# Altium footprint library PcbLib_ZG.PcbLib: 87 footprints (part 4 of 6)
Each footprint in its own frame and in the unit in brackets; x right, y up, seen from the top. Pads: shape width x height; smd on the part's side, far side on the other; paste and mask are expansions set on the pad; w line width, h text height; cw(c..) or ccw(c..) is an arc to the next point about the centre after c.
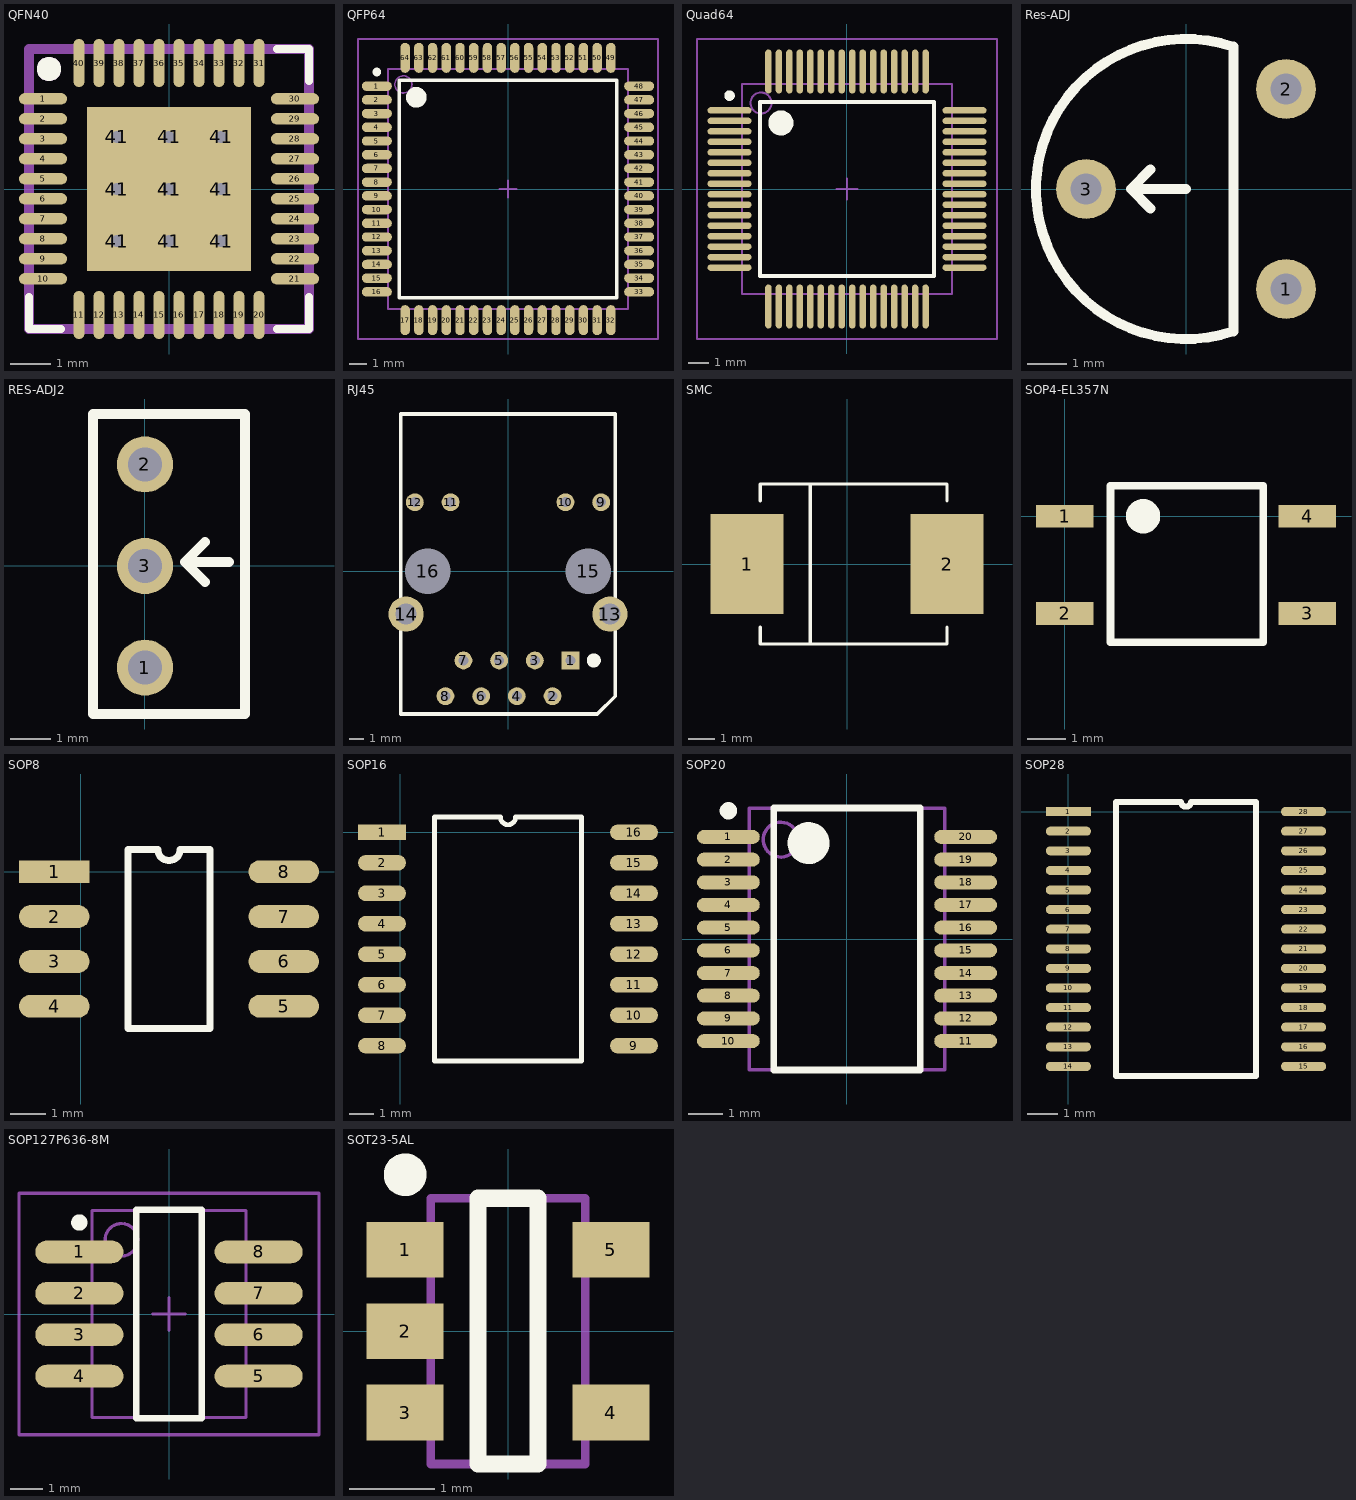
[diagram p3: the footprints below, top view; thin cyan lines are the x and y axes]

## QFN40 [mm]
pads (50):
  oval 1.2x0.28 smd paste+0 mask+0.07: 1(-3.15,2.255) 2(-3.15,1.755) 3(-3.15,1.255) 4(-3.15,0.755) 5(-3.15,0.255) 6(-3.15,-0.245) 7(-3.15,-0.745) 8(-3.15,-1.245) 9(-3.15,-1.745) 10(-3.15,-2.245) 21(3.15,-2.245) 22(3.15,-1.745) 23(3.15,-1.245) 24(3.15,-0.745) 25(3.15,-0.245) 26(3.15,0.255) 27(3.15,0.755) 28(3.15,1.255) 29(3.15,1.755) 30(3.15,2.255)
  oval 0.28x1.2 smd paste+0 mask+0.07: 11(-2.25,-3.15) 12(-1.75,-3.15) 13(-1.25,-3.15) 14(-0.75,-3.15) 15(-0.25,-3.15) 16(0.25,-3.15) 17(0.75,-3.15) 18(1.25,-3.15) 19(1.75,-3.15) 20(2.25,-3.15) 31(2.25,3.15) 32(1.75,3.15) 33(1.25,3.15) 34(0.75,3.15) 35(0.25,3.15) 36(-0.25,3.15) 37(-0.75,3.15) 38(-1.25,3.15) 39(-1.75,3.15) 40(-2.25,3.15)
  rect 1x1 smd paste+0 mask-1.1: 41(-1.3,-1.3) 41(-1.3,0) 41(-1.3,1.3) 41(0,-1.3) 41(0,0) 41(0,1.3) 41(1.3,-1.3) 41(1.3,0) 41(1.3,1.3)
  rect 4.1x4.1 smd paste-4.6 mask+0: 41(0,0)
via -1.3,1.3 diameter 0.55 hole 0.3
via 0,1.3 diameter 0.55 hole 0.3
via 1.3,1.3 diameter 0.55 hole 0.3
via -1.3,0 diameter 0.55 hole 0.3
via 0,0 diameter 0.55 hole 0.3
via 1.3,0 diameter 0.55 hole 0.3
via 1.3,-1.3 diameter 0.55 hole 0.3
via 0,-1.3 diameter 0.55 hole 0.3
via -1.3,-1.3 diameter 0.55 hole 0.3
Top Overlay:
  region: -3,2.7 -3.06,2.7 -3.17,2.746 -3.254,2.83 -3.3,2.94 -3.3,3.06 -3.254,3.17 -3.17,3.254 -3.06,3.3 -3,3.3 -2.94,3.3 -2.83,3.254 -2.746,3.17 -2.7,3.06 -2.7,2.94 -2.746,2.83 -2.83,2.746 -2.94,2.7
  lines w0.2: -3.5,-2.7 -3.5,-3.5 -2.7,-3.5 ; 2.7,-3.5 3.5,-3.5 3.5,-2.7 ; 2.7,3.5 3.5,3.5 3.5,2.7
Mechanical 1:
  region: -3,2.7 -3.06,2.7 -3.17,2.746 -3.254,2.83 -3.3,2.94 -3.3,3.06 -3.254,3.17 -3.17,3.254 -3.06,3.3 -3,3.3 -2.94,3.3 -2.83,3.254 -2.746,3.17 -2.7,3.06 -2.7,2.94 -2.746,2.83 -2.83,2.746 -2.94,2.7
  lines w0.254: -3.5,-3.5 3.5,-3.5 3.5,3.5 -3.5,3.5 -3.5,-3.5
3D body: height 1, standoff 0, extent -3.5,-3.5 3.5,3.5

## QFP64 [mm] "Thin QFP, 64-Leads, Body 14x14mm, Pitch 0.8mm, IPC Medium Density"
height 1.2
pads (64):
  oval 1.75x0.55 smd: 1(-7.65,6) 2(-7.65,5.2) 3(-7.65,4.4) 4(-7.65,3.6) 5(-7.65,2.8) 6(-7.65,2) 7(-7.65,1.2) 8(-7.65,0.4) 9(-7.65,-0.4) 10(-7.65,-1.2) 11(-7.65,-2) 12(-7.65,-2.8) 13(-7.65,-3.6) 14(-7.65,-4.4) 15(-7.65,-5.2) 16(-7.65,-6) 33(7.65,-6) 34(7.65,-5.2) 35(7.65,-4.4) 36(7.65,-3.6) 37(7.65,-2.8) 38(7.65,-2) 39(7.65,-1.2) 40(7.65,-0.4) 41(7.65,0.4) 42(7.65,1.2) 43(7.65,2) 44(7.65,2.8) 45(7.65,3.6) 46(7.65,4.4) 47(7.65,5.2) 48(7.65,6)
  oval 0.55x1.75 smd: 17(-6,-7.65) 18(-5.2,-7.65) 19(-4.4,-7.65) 20(-3.6,-7.65) 21(-2.8,-7.65) 22(-2,-7.65) 23(-1.2,-7.65) 24(-0.4,-7.65) 25(0.4,-7.65) 26(1.2,-7.65) 27(2,-7.65) 28(2.8,-7.65) 29(3.6,-7.65) 30(4.4,-7.65) 31(5.2,-7.65) 32(6,-7.65) 49(6,7.65) 50(5.2,7.65) 51(4.4,7.65) 52(3.6,7.65) 53(2.8,7.65) 54(2,7.65) 55(1.2,7.65) 56(0.4,7.65) 57(-0.4,7.65) 58(-1.2,7.65) 59(-2,7.65) 60(-2.8,7.65) 61(-3.6,7.65) 62(-4.4,7.65) 63(-5.2,7.65) 64(-6,7.65)
Top Overlay:
  circle w0.6: c-5.35,5.35 r0.3
  circle w0.25: c-7.65,6.825 r0.125
  lines w0.2: -6.35,-6.35 6.35,-6.35 6.35,6.35 -6.35,6.35 -6.35,-6.35
Mechanical 13:
  circle w0.1: c-6.1,6.1 r0.5
  lines w0.1: -7,-7 7,-7 7,7 -7,7 -7,-7
Mechanical 15:
  lines w0.1: -0.5,0 0.5,0 ; 0,-0.5 0,0.5 ; -8.75,-8.75 8.75,-8.75 8.75,8.75 -8.75,8.75 -8.75,-8.75
3D body: height 1.2, standoff 0, extent -7,-7 7,7

## Quad40 [mm]

## Quad64 [mm] "stm32f103rb"
pads (64):
  oval 2.1x0.3 smd: 1(-5.6,3.75) 2(-5.6,3.25) 3(-5.6,2.75) 4(-5.6,2.25) 5(-5.6,1.75) 6(-5.6,1.25) 7(-5.6,0.75) 8(-5.6,0.25) 9(-5.6,-0.25) 10(-5.6,-0.75) 11(-5.6,-1.25) 12(-5.6,-1.75) 13(-5.6,-2.25) 14(-5.6,-2.75) 15(-5.6,-3.25) 16(-5.6,-3.75) 33(5.6,-3.75) 34(5.6,-3.25) 35(5.6,-2.75) 36(5.6,-2.25) 37(5.6,-1.75) 38(5.6,-1.25) 39(5.6,-0.75) 40(5.6,-0.25) 41(5.6,0.25) 42(5.6,0.75) 43(5.6,1.25) 44(5.6,1.75) 45(5.6,2.25) 46(5.6,2.75) 47(5.6,3.25) 48(5.6,3.75)
  oval 0.3x2.1 smd: 17(-3.75,-5.6) 18(-3.25,-5.6) 19(-2.75,-5.6) 20(-2.25,-5.6) 21(-1.75,-5.6) 22(-1.25,-5.6) 23(-0.75,-5.6) 24(-0.25,-5.6) 25(0.25,-5.6) 26(0.75,-5.6) 27(1.25,-5.6) 28(1.75,-5.6) 29(2.25,-5.6) 30(2.75,-5.6) 31(3.25,-5.6) 32(3.75,-5.6) 49(3.75,5.6) 50(3.25,5.6) 51(2.75,5.6) 52(2.25,5.6) 53(1.75,5.6) 54(1.25,5.6) 55(0.75,5.6) 56(0.25,5.6) 57(-0.25,5.6) 58(-0.75,5.6) 59(-1.25,5.6) 60(-1.75,5.6) 61(-2.25,5.6) 62(-2.75,5.6) 63(-3.25,5.6) 64(-3.75,5.6)
Top Overlay:
  circle w0.25: c-5.6,4.45 r0.125
  circle w0.6: c-3.15,3.15 r0.3
  lines w0.2: -4.15,-4.15 -4.15,4.15 4.15,4.15 4.15,-4.15 -4.15,-4.15
Mechanical 13:
  circle w0.1: c-4.1,4.1 r0.5
  lines w0.1: -5,-5 -5,5 5,5 5,-5 -5,-5
Mechanical 15:
  lines w0.1: -0.5,0 0.5,0 ; 0,-0.5 0,0.5 ; -7.15,-7.15 -7.15,7.15 7.15,7.15 7.15,-7.15 -7.15,-7.15
3D body: height 0.25, standoff 0, extent 5.436,-0.66 5.436,-0.66

## Res-ADJ [mil] "Blue-White adjustable resister"
height 196.85
pads (3):
  round 60 hole 31.5: 1(100,-100) 2(100,100) 3(-100,0)
Top Overlay:
  lines w10: -35.43,-19.68 -55.12,0 ; -35.43,19.68 -55.12,0 ; 0,0 -55.12,0 ; 47.43,-142.3 cw(c0,0) 47.43,142.3 47.43,-142.3
3D body: height 10, standoff 0, extent -150,-150 150,150

## RES-ADJ2 [mm]
height 10
pads (3):
  round 1.4 hole 0.85: 1(0,-2.54) 2(0,2.54) 3(0,0)
Top Overlay:
  lines w0.254: 1.5,-0.4 1,0.1 ; 1.5,0.6 1,0.1 ; 2.1,0.1 1,0.1 ; -1.3,-3.7 2.5,-3.7 2.5,3.8 -1.3,3.8 -1.3,-3.7
3D body: height 10, standoff 0, extent -1.277,-3.81 2.537,3.81

## RJ45 [mm]
height 20
pads (16):
  rect 1.27x1.27 hole 0.711: 1(4.45,-6.35)
  round 1.27 hole 0.711: 2(3.17,-8.89) 3(1.91,-6.35) 4(0.63,-8.89) 5(-0.63,-6.35) 6(-1.91,-8.89) 7(-3.17,-6.35) 8(-4.45,-8.89) 9(6.625,4.9) 10(4.085,4.9) 11(-4.085,4.9) 12(-6.625,4.9)
  round 2.5 hole 1.5: 13(7.245,-3.05) 14(-7.245,-3.05)
  round 3.05 hole 3.25: 15(5.715,0) 16(-5.715,0)
Top Overlay:
  circle w0.5: c6.1,-6.35 r0.25
  lines w0.254: -7.62,-10.16 -7.62,11.176 7.62,11.176 7.62,-8.89 6.35,-10.16 -7.62,-10.16
3D body: height 14, standoff 0, extent -7.62,-10.16 7.62,11.176

## SMC [mil] "Diode; 2 Leads"
pads (2):
  rect 110x150 smd: 1(-150,0) 2(150,0)
Top Overlay:
  lines w5: -130,-95 -130,-120 150,-120 150,-95 ; -130,95 -130,120 150,120 150,95 ; -55,-120 -55,120
Mechanical 1:
  lines w1: -130,-120 150,-120 ; -130,120 150,120

## SOP4-EL357N [mm]
pads (4):
  rect 1.5x0.6 smd: 1(0,0) 2(0,-2.54) 3(6.35,-2.54) 4(6.35,0)
Top Overlay:
  circle w0.5: c2.05,0 r0.2
  lines w0.2: 1.2,-3.3 1.2,0.8 5.2,0.8 5.2,-3.3 1.2,-3.3

## SOP8 [mm] "8 pin sop"
height 1.2
pads (8):
  rect 2x0.65 smd: 1(-0.75,0)
  oval 2x0.65 smd: 2(-0.75,-1.27) 3(-0.75,-2.54) 4(-0.75,-3.81) 5(5.75,-3.81) 6(5.75,-2.54) 7(5.75,-1.27) 8(5.75,0)
Top Overlay:
  lines w0.2: 1.335,-4.445 3.665,-4.445 3.665,0.635 2.818,0.635 cw(c2.5,0.635) 2.183,0.635 1.335,0.635 1.335,-4.445
3D body: height 1.2, standoff 0, extent 0.7,-4.5 4.2,0.7

## SOP16 [mm]
pads (16):
  rect 2x0.65 smd: 1(-0.75,0)
  oval 2x0.65 smd: 2(-0.75,-1.27) 3(-0.75,-2.54) 4(-0.75,-3.81) 5(-0.75,-5.08) 6(-0.75,-6.35) 7(-0.75,-7.62) 8(-0.75,-8.89) 9(9.75,-8.89) 10(9.75,-7.62) 11(9.75,-6.35) 12(9.75,-5.08) 13(9.75,-3.81) 14(9.75,-2.54) 15(9.75,-1.27) 16(9.75,0)
Top Overlay:
  lines w0.2: 1.435,-9.525 1.435,0.635 4.182,0.635 ccw(c4.5,0.635) 4.817,0.635 7.565,0.635 7.565,-9.525 1.435,-9.525
3D body: height 1.2, standoff 0, extent 1,-9.5 8,0.6

## SOP20 [mm] "SOP, 20-Leads, Body 7.2x5.3mm, Pitch 0.65mm, IPC High Density"
height 2
pads (20):
  oval 1.8x0.4 smd: 1(-3.4,2.925) 2(-3.4,2.275) 3(-3.4,1.625) 4(-3.4,0.975) 5(-3.4,0.325) 6(-3.4,-0.325) 7(-3.4,-0.975) 8(-3.4,-1.625) 9(-3.4,-2.275) 10(-3.4,-2.925) 11(3.4,-2.925) 12(3.4,-2.275) 13(3.4,-1.625) 14(3.4,-0.975) 15(3.4,-0.325) 16(3.4,0.325) 17(3.4,0.975) 18(3.4,1.625) 19(3.4,2.275) 20(3.4,2.925)
Top Overlay:
  circle w0.25: c-3.4,3.675 r0.125
  circle w0.6: c-1.1,2.75 r0.3
  lines w0.2: -2.1,-3.75 -2.1,3.75 2.1,3.75 2.1,-3.75 -2.1,-3.75
Mechanical 13:
  circle w0.1: c-1.9,2.85 r0.5
  lines w0.1: -2.8,-3.75 -2.8,3.75 2.8,3.75 2.8,-3.75 -2.8,-3.75
3D body: height 1.2, standoff 0, extent -2.8,-3.75 2.8,3.75

## SOP28 [mm]
pads (28):
  rect 1.5x0.3 smd: 1(0,0)
  oval 1.5x0.3 smd: 2(0,-0.65) 3(0,-1.3) 4(0,-1.95) 5(0,-2.6) 6(0,-3.25) 7(0,-3.9) 8(0,-4.55) 9(0,-5.2) 10(0,-5.85) 11(0,-6.5) 12(0,-7.15) 13(0,-7.8) 14(0,-8.45) 15(7.8,-8.45) 16(7.8,-7.8) 17(7.8,-7.15) 18(7.8,-6.5) 19(7.8,-5.85) 20(7.8,-5.2) 21(7.8,-4.55) 22(7.8,-3.9) 23(7.8,-3.25) 24(7.8,-2.6) 25(7.8,-1.95) 26(7.8,-1.3) 27(7.8,-0.65) 28(7.8,0)
Top Overlay:
  lines w0.2: 1.585,-8.775 6.215,-8.775 6.215,0.325 4.062,0.325 cw(c3.9,0.325) 3.738,0.325 1.585,0.325 1.585,-8.775
3D body: height 1.2, standoff 0, extent 0.5,-8.9 7.3,0.45

## SOP64 [mm]

## SOP127P636-8M [mm] "SOP, 8-Leads, Body 6x4.7mm, Pitch 1.27mm, IPC Low Density"
height 1.5
pads (8):
  oval 2.7x0.7 smd: 1(-2.75,1.905) 2(-2.75,0.635) 3(-2.75,-0.635) 4(-2.75,-1.905) 5(2.75,-1.905) 6(2.75,-0.635) 7(2.75,0.635) 8(2.75,1.905)
Top Overlay:
  circle w0.25: c-2.75,2.805 r0.125
  lines w0.2: -1,-3.2 -1,3.2 1,3.2 1,-3.2 -1,-3.2
Mechanical 13:
  circle w0.1: c-1.46,2.275 r0.5
  lines w0.1: -2.36,-3.175 -2.36,3.175 2.36,3.175 2.36,-3.175 -2.36,-3.175
Mechanical 15:
  lines w0.1: -0.5,0 0.5,0 ; 0,-0.5 0,0.5 ; -4.6,-3.7 -4.6,3.7 4.6,3.7 4.6,-3.7 -4.6,-3.7
3D body: height 1.5, standoff 0, extent -2.36,-3.175 2.36,3.175

## SOT23-5AL [mm] "SOT23, 5-Leads, Body 2.9x1.6mm, Pitch 0.95mm, Lead Span 2.8mm, IPC High Density"
height 1.45
pads (5):
  rect 0.9x0.65 smd: 1(-1.2,0.95) 2(-1.2,0) 3(-1.2,-0.95) 4(1.2,-0.95) 5(1.2,0.95)
Top Overlay:
  circle w0.25: c-1.2,1.825 r0.125
  lines w0.2: -0.35,-1.55 -0.35,1.55 0.35,1.55 0.35,-1.55 -0.35,-1.55
Mechanical 13:
  lines w0.1: -0.9,-1.55 0.9,-1.55 0.9,1.55 -0.9,1.55 -0.9,-1.55
3D body: height 1.14, standoff 0, extent -0.9,-1.55 0.9,1.55